# EAGLE library part DS3668 (library klaus)
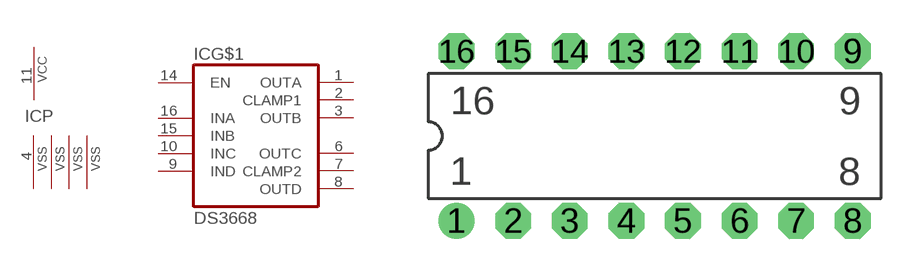
[diagram p0: symbol with the pads of DIL-16; footprint DIL-16]

Designator prefix IC; gates G$1=DS3668 P=PWRN4G

## DS3668  [DIL-16]
1  G$1:OUTA
2  G$1:CLAMP1
3  G$1:OUTB
4  P:VSS  pwr
5  P:VSS  pwr
6  G$1:OUTC
7  G$1:CLAMP2
8  G$1:OUTD
9  G$1:IND  in
10  G$1:INC  in
11  P:VCC  pwr
12  P:VSS  pwr
13  P:VSS  pwr
14  G$1:EN  in
15  G$1:INB  in
16  G$1:INA  in

## Footprint DIL-16 (pad centres in mm)
drill 0.813 pad 1.6: 1 -8.89,-3.81
drill 0.813 pad 1.6 octagon: 2 -6.35,-3.81; 3 -3.81,-3.81; 4 -1.27,-3.81; 5 1.27,-3.81; 6 3.81,-3.81; 7 6.35,-3.81; 8 8.89,-3.81; 9 8.89,3.81; 10 6.35,3.81; 11 3.81,3.81; 12 1.27,3.81; 13 -1.27,3.81; 14 -3.81,3.81; 15 -6.35,3.81; 16 -8.89,3.81